# Altium footprint library 3568-MiniFuseHolder.PcbLib: 1 footprints
Each footprint in its own frame and in the unit in brackets; x right, y up, seen from the top. Pads: shape width x height; smd on the part's side, far side on the other; paste and mask are expansions set on the pad; w line width, h text height; cw(c..) or ccw(c..) is an arc to the next point about the centre after c.
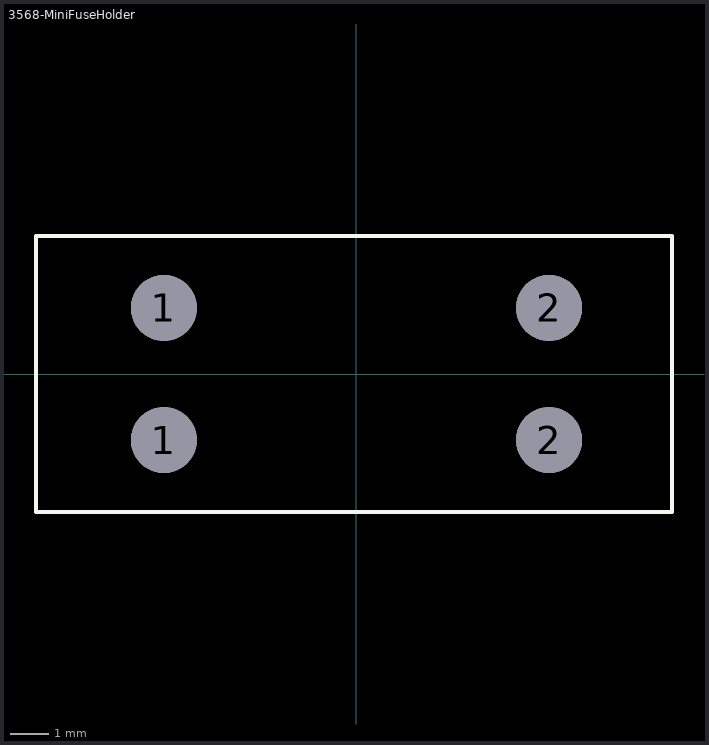
[diagram p0: the footprint, top view; thin cyan lines are the x and y axes]

## 3568-MiniFuseHolder [mm] "3568 Mini Fuse Holder"
height 7.37
pads (4):
  round 1.7 hole 1.7: 1(-4.96,-1.7) 1(-4.96,1.7) 2(4.96,-1.7) 2(4.96,1.7)
Top Overlay:
  lines w0.1: -8.255,-3.556 8.128,-3.556 8.128,3.556 -8,3.556 -8.255,3.556 -8.255,-3.556
3D body: height 16.17, standoff 0, extent -6.985,-2.286 6.985,2.286
3D body: height 7.49, standoff -2.67, extent -7.493,-4.191 -7.493,-4.191
3D body "Fuse_Keystone_3568_eec.STEP": height 7.49, standoff -2.67, extent -8,-3.346 8,3.384